# EAGLE library part PARTICLE_BGA725L6 (library AT SoM Carrier Board V0.3r2)
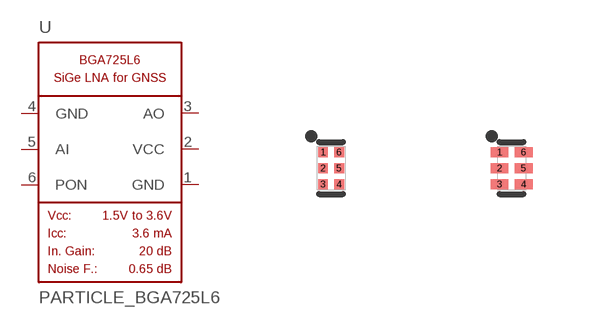
[diagram p3: symbol with the pads of PARTICLE_LNA-TSLP-6-2-ORIG; footprints PARTICLE_LNA-TSLP-6-2-ORIG, PARTICLE_LNA-TSLP-6-2-ALT]

Designator prefix U

## PARTICLE_BGA725L6  [PARTICLE_LNA-TSLP-6-2-ORIG]
1  GND  pwr
2  VCC  pwr
3  AO  out
4  GND  pwr
5  AI  in
6  PON  in

## PARTICLE_BGA725L6-ALT  [PARTICLE_LNA-TSLP-6-2-ALT]
Pads as for PARTICLE_LNA-TSLP-6-2-ORIG

## Footprint PARTICLE_LNA-TSLP-6-2-ORIG (pad centres in mm)
smd 0.25 x 0.25: 1 -0.2,0.4; 2 -0.2,0; 3 -0.2,-0.4; 4 0.2,-0.4; 5 0.2,0; 6 0.2,0.4

## Footprint PARTICLE_LNA-TSLP-6-2-ALT (pad centres in mm)
smd 0.45 x 0.25: 1 -0.3,0.4; 2 -0.3,0; 3 -0.3,-0.4; 4 0.3,-0.4; 5 0.3,0; 6 0.3,0.4